# Altium schematic symbol library LT3080.SchLib: 1 symbol
Pins are listed as number, name and electrical type; pins without a type are passive.

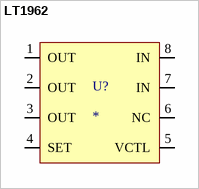
[diagram p0: symbol LT1962]

## LT1962
designator U?
LT1962 - 300mA, Low Noise, Micropower LDO Regulators; Vendor: Linear Technology; Manufacturer: Linear Technology; Part No.: LT1962; Price Est.: $2.00
footprint MSOP-8 (MS8E) (MS8E MSOP-8 Linear Technology 8-Lead PLASTIC MSOP Exposed Ground (LT3010)); pin to pad 1>1+9
pins: 1 OUT, 2 OUT, 3 OUT, 4 SET, 5 VCTL, 6 NC, 7 IN, 8 IN